# EAGLE library part DF11-12DP (library connectors)
Hirose DF11 12-pos Through Hole
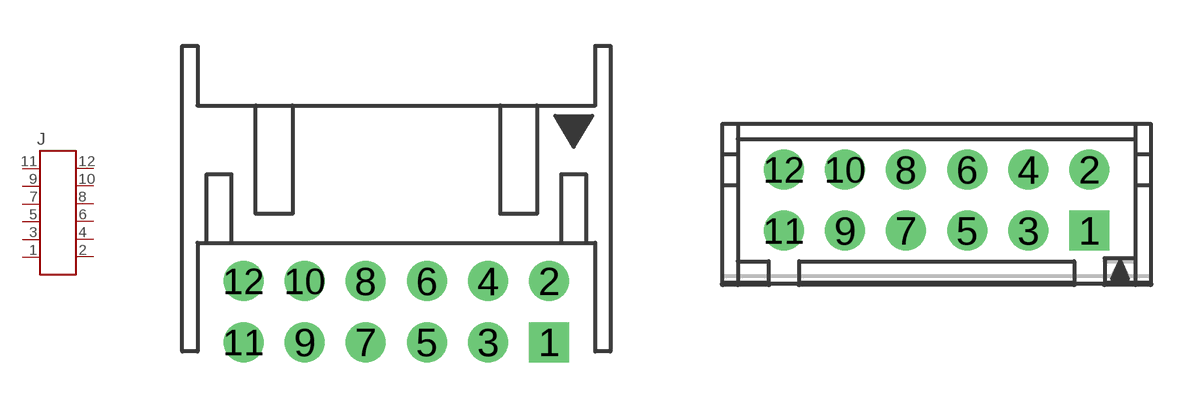
[diagram p3: symbol with the pads of DF11-12DP-2DS; footprints DF11-12DP-2DS, DF11-12DP-2DSA]

Designator prefix J

## DF11-12DP-2DS, DF11-12DP(52)-2DS (MF: Hirose; MPN: DF11-12DP-2DS(52); REVIEWED: NO; TESTED: NO)  [DF11-12DP-2DS]
1  1
2  2
3  3
4  4
5  5
6  6
7  7
8  8
9  9
10  10
11  11
12  12

## DF11-12DP-2DSA (MF: Hirose; REVIEWED: NO; TESTED: NO), DF11-12DP(01)-2DSA (MF: Hirose; MPN: DF11-12DP-2DSA(01); REVIEWED: NO; TESTED: NO)  [DF11-12DP-2DSA]
Pads as for DF11-12DP-2DS

## Footprint DF11-12DP-2DS (pad centres in mm)
Hirose DF11 12-pos R/A Thru-Hole http://www.hirose.co.jp/cataloge_hp/2d/EDC3-080371-02.pdf
drill 0.8 square: 1 5,-1
drill 0.8: 2 5,1; 3 3,-1; 4 3,1; 5 1,-1; 6 1,1; 7 -1,-1; 8 -1,1; 9 -3,-1; 10 -3,1; 11 -5,-1; 12 -5,1

## Footprint DF11-12DP-2DSA (pad centres in mm)
Hirose DF11 12-pos Vert Thru-Hole http://www.hirose.co.jp/cataloge_hp/2d/EDC3-080371-02.pdf
drill 0.8 square: 1 5,-1
drill 0.8: 2 5,1; 3 3,-1; 4 3,1; 5 1,-1; 6 1,1; 7 -1,-1; 8 -1,1; 9 -3,-1; 10 -3,1; 11 -5,-1; 12 -5,1